# Altium schematic symbol library ACS772-Hall_Effect_Sensor.SchLib: 1 symbol
Pins are listed as number, name and electrical type; pins without a type are passive.

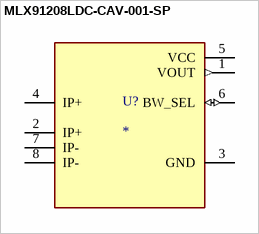
[diagram p0: symbol MLX91208LDC-CAV-001-SP]

## MLX91208LDC-CAV-001-SP
designator U?
MP: MLX91208LDC-CAV-001-SP; Package: None; Price: None; Value: *; Availability: Unavailable
footprint SOIC127P602X173-8N
pins: 1 VOUT (out), 2 IP+, 3 GND (power), 4 IP+, 5 VCC (power), 6 BW_SEL (io), 7 IP-, 8 IP-